# Altium schematic symbol library LM7812CT.SchLib: 1 symbol
Pins are listed as number, name and electrical type; pins without a type are passive.

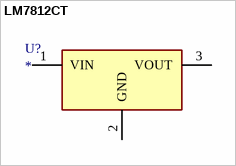
[diagram p0: symbol LM7812CT]

## LM7812CT
designator U?
ComponentLink1Description: mouser; ComponentLink1URL: https://www.mouser.es/ProductDetail/Texas-Instruments/LM7812CT-NOPB?qs=OYMYEaN9QmBofCpFKHiRuQ%3D%3D; datasheet: https://www.ti.com/general/docs/suppproductinfo.tsp?distId=26&gotoUrl=http%253A%252F%252Fwww.ti.com%252Flit%252Fgpn%252Flm7800
footprint TO220-3
pins: 1 VIN, 2 GND, 3 VOUT